# Altium schematic symbol library FVA-NET.SCHLIB: 16 symbols
Pins are listed as number, name and electrical type; pins without a type are passive.

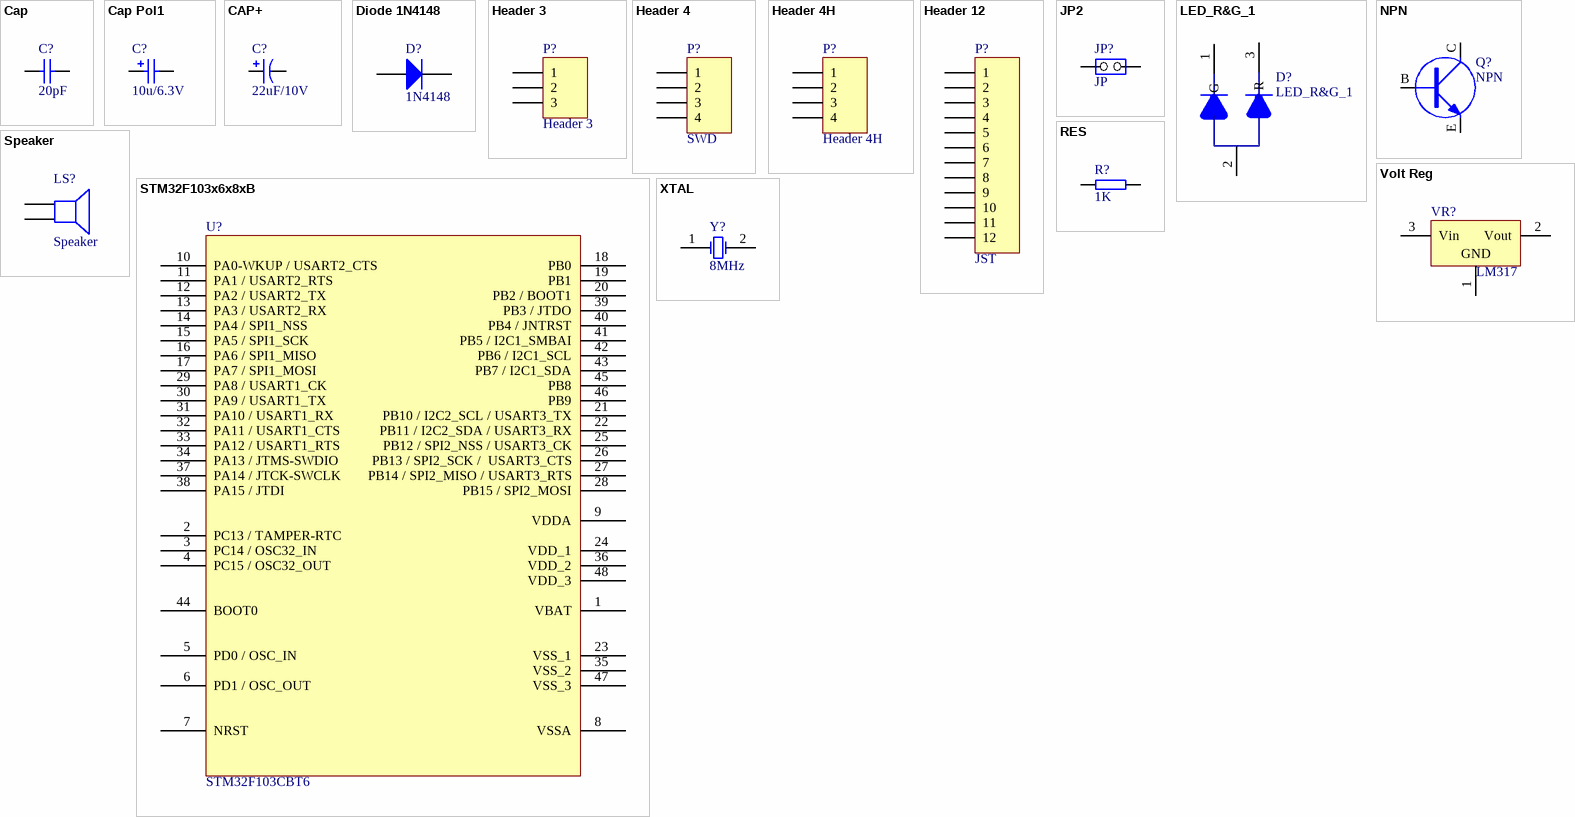
[diagram p0: symbols Cap to XTAL]

## Cap
designator C?  value 20pF  (hidden comment: Cap)
电容器 Capacitor; Published: 8-Jun-2000; LatestRevisionDate: 17-Jul-2002; LatestRevisionNote: Re-released for DXP Platform.; PackageReference: RAD-0.3; Publisher: Altium Limited
footprint RAD-0.3 (Radial Cap, Thru-Hole; 2 Leads; 0.3 in Pin Spacing)
footprint CAPR2.54-5.1x3.2 (Capacitor, Ceramic, Thru-Hole, Dipped Radial; Body 5.1 x 3.2 mm (WxT) Pin Spacing 2.54 mm (typ))
footprint CAPR5.08-7.8x3.2 (Capacitor, Ceramic, Thru-Hole, Dipped Radial; Body 7.8 x 3.2 mm (WxT) Pin Spacing 5.08 mm (typ))
footprint c0603 (Chip Capacitor, 2-Leads, Body 1.6x0.8mm, IPC Medium Density)
pins: 1, 2

## Cap Pol1
designator C?  value 10u/6.3V  (hidden comment: Cap Pol1)
Polarized Capacitor (Radial); Published: 8-Jun-2000; LatestRevisionDate: 17-Jul-2002; LatestRevisionNote: Re-released for DXP Platform.; Publisher: Altium Limited
footprint RB7.6-15 (Polarized Capacitor (Radial); 2 Leads)
footprint CAPPR1.27-1.7x2.8 (Capacitor, Radial, Tantalum; Body 1.7 x 2.8 mm (Dia.xH max); Pin Spacing 1.27 mm (typ))
footprint CAPPR1.5-4x5 (Capacitor, Electrolytic, Radial; Body 4 x 5 mm (Dia.xH typ); Pin Spacing 1.5 mm (typ))
footprint CAPPR2-5x6.8 (Capacitor, Electrolytic, Radial; Body 5 x 6.8 mm (Dia.xH typ); Pin Spacing 2 mm (typ))
footprint CAPPR5-5x5 (Capacitor, Electrolytic, Radial; Body 5 x 5 mm (Dia.xH typ); Pin Spacing 5 mm (typ))
footprint CAPPR7.5-16x35 (Capacitor, Electrolytic, Radial; Body 16 x 35 mm (Dia.xH typ); Pin Spacing 7.5 mm (typ))
simulation model CAP (Capacitor)
signal-integrity model Cap Pol
footprint C6133-2413
footprint C6030-2412
footprint TC6032-2412
footprint RB.1/.2
footprint T3216 (Molded Capacitor, 2-Leads, Body 3.2x1.6mm, IPC Medium Density)
footprint 10u
footprint 6.3V/10U
footprint 6.3V/47U
footprint TAJ-C 10u
footprint 6.3V47U
footprint 47UF/6.3V
pins: 1, 2
1 alternate drawing of the same symbol

## CAP+
designator C?  value 22uF/10V  (hidden comment: CAP+)
footprint RB2.5/6.3MM
footprint RB3.5/8MM
footprint RB5/10MM
footprint RB5/12.5MM
footprint RB7.5/16MM
footprint RB10/22MM
footprint RB10/30MM
footprint RB10/35MM
footprint T3216 (Molded Capacitor, 2-Leads, Body 3.2x1.6mm, IPC Medium Density)
footprint T3528 (Molded Capacitor, 2-Leads, Body 3.5x2.8mm, IPC Medium Density)
footprint T6032 (Molded Capacitor, 2-Leads, Body 6.0x3.2mm, IPC Medium Density)
footprint T7343 (Molded Capacitor, 2-Leads, Body 7.3x4.3mm, IPC Medium Density)
footprint RB2/5MM
footprint RB3/7MM
footprint RB4/8MM
footprint R0402
pins: 1, 2
2 alternate drawings of the same symbol

## Diode 1N4148
designator D?, comment 1N4148
High Conductance Fast Diode; Value: 1N4148
footprint D1206
simulation model 1N4148 (DIODE)
signal-integrity model 1N4148
pins: 1 A, 2 K

## Header 3
designator P?
Header, 3-Pin; LatestRevisionDate: 17-Jul-2002; LatestRevisionNote: Re-released for DXP Platform.; Publisher: Altium Limited
footprint HDR1X3 (Connector; Header; 3 Position)
signal-integrity model Connector
pins: 1, 2, 3

## Header 4
designator P?, comment SWD
Header, 4-Pin; LatestRevisionDate: 17-Jul-2002; LatestRevisionNote: Re-released for DXP Platform.; Publisher: Altium Limited; Value: *
footprint HDR1X4 (Connector; Header; 4 Position)
signal-integrity model Connector
pins: 1, 2, 3, 4

## Header 4H
designator P?
Header, 4-Pin, Right Angle; LatestRevisionDate: 17-Jul-2002; LatestRevisionNote: Re-released for DXP Platform.; Publisher: Altium Limited
footprint HDR1X4H (Connector; Header; 4 Position; Right Angle)
signal-integrity model Connector
pins: 1, 2, 3, 4

## Header 12
designator P?, comment JST
Header, 12-Pin; LatestRevisionDate: 17-Jul-2002; LatestRevisionNote: Re-released for DXP Platform.; Publisher: Altium Limited
footprint JST BM12B-SRSS-TB (BM12B-SRSS-TB)
signal-integrity model Connector
pins: 1, 2, 3, 4, 5, 6, 7, 8, 9, 10, 11, 12

## JP2
designator JP?, comment JP
Value: *
footprint SIP2
pins: 1 COMMON, 2 NO

## LED_R&G_1
designator D?
footprint LED_R&G
pins: 1 G, 2 P, 3 R

## NPN
designator Q?
NPN Transistor; Value: *
footprint SOT23/BEC (Footprint not found)
footprint SOT23/BEC
footprint TO-220AB
footprint TO-3PN
footprint TO-92/EBC
pins: B, C, E
2 alternate drawings of the same symbol

## RES
designator R?  value 1K  (hidden comment: RES)
footprint R0603
footprint R0402
footprint R0805
footprint R1206
footprint R1210
footprint R1812
footprint AXIAL-0.25
footprint AXIAL-0.3 (Axial Device, Thru-Hole; 2 Leads; 0.3 in Pin Spacing)
footprint AXIAL-0.35
footprint AXIAL-0.4
footprint AXIAL-0.5 (Axial Device, Thru-Hole; 2 Leads; 0.5 in Pin Spacing)
footprint AXIAL-0.6 (Axial Device, Thru-Hole; 2 Leads; 0.6 in Pin Spacing)
footprint AXIAL-0.7 (Axial Device, Thru-Hole; 2 Leads; 0.7 in Pin Spacing)
footprint AXIAL-0.8 (Axial Device, Thru-Hole; 2 Leads; 0.8 in Pin Spacing)
footprint AXIAL-0.9 (Axial Device, Thru-Hole; 2 Leads; 0.9 in Pin Spacing)
footprint AXIAL-1.0 (Axial Device, Thru-Hole; 2 Leads; 1.0 in Pin Spacing)
footprint R2512
footprint R0603
pins: 1, 2
2 alternate drawings of the same symbol

## Speaker
designator LS?
Loudspeaker; Published: 24-Mar-1999; LatestRevisionDate: 17-Jul-2002; LatestRevisionNote: Re-released for DXP Platform.; PackageReference: PIN2; Publisher: Altium Limited
footprint BUZZER
pins: 1, 2

## STM32F103x6x8xB
designator U?, comment STM32F103CBT6
48 pin; Value: *
footprint LQFP48 (TSQFP, 48-Leads, Body 9.2x9.2mm (max), Pitch 0.50mm, IPC Medium Density)
pins: 1 VBAT, 2 PC13 / TAMPER-RTC, 3 PC14 / OSC32_IN, 4 PC15 / OSC32_OUT, 5 PD0 / OSC_IN, 6 PD1 / OSC_OUT, 7 NRST, 8 VSSA, 9 VDDA, 10 PA0-WKUP / USART2_CTS, 11 PA1 / USART2_RTS, 12 PA2 / USART2_TX, 13 PA3 / USART2_RX, 14 PA4 / SPI1_NSS, 15 PA5 / SPI1_SCK, 16 PA6 / SPI1_MISO, 17 PA7 / SPI1_MOSI, 18 PB0, 19 PB1, 20 PB2 / BOOT1, 21 PB10 / I2C2_SCL / USART3_TX, 22 PB11 / I2C2_SDA / USART3_RX, 23 VSS_1, 24 VDD_1, 25 PB12 / SPI2_NSS / USART3_CK, 26 PB13 / SPI2_SCK /  USART3_CTS, 27 PB14 / SPI2_MISO / USART3_RTS, 28 PB15 / SPI2_MOSI, 29 PA8 / USART1_CK, 30 PA9 / USART1_TX, 31 PA10 / USART1_RX, 32 PA11 / USART1_CTS, 33 PA12 / USART1_RTS, 34 PA13 / JTMS-SWDIO, 35 VSS_2, 36 VDD_2, 37 PA14 / JTCK-SWCLK, 38 PA15 / JTDI, 39 PB3 / JTDO, 40 PB4 / JNTRST, 41 PB5 / I2C1_SMBAI, 42 PB6 / I2C1_SCL, 43 PB7 / I2C1_SDA, 44 BOOT0, 45 PB8, 46 PB9, 47 VSS_3, 48 VDD_3

## Volt Reg
designator VR?, comment LM317
Voltage Regulator; Published: 24-Mar-1999; LatestRevisionDate: 17-Jul-2002; LatestRevisionNote: Re-released for DXP Platform.; Publisher: Altium Limited; Code_JEDEC: SMD-220
footprint SIP-G3/Y2 (D2-PAK/TO-263-AB; 3 Leads (1 Cropped); Body 15.5 (inc. leads) x 10.5 mm (LxW max))
footprint SOT89 (SOT-89; Body 4.6 x 4.25 mm, inc. leads (LxW max))
footprint SOT223
footprint SOT223
pins: 1 GND, 2 Vout, 3 Vin

## XTAL
designator Y?, comment 8MHz
Crystal Oscillator; Published: 8-Jun-2000; LatestRevisionDate: 17-Jul-2002; LatestRevisionNote: Re-released for DXP Platform.; PackageReference: R38; Publisher: Altium Limited; Value: 8MHz
footprint BCY-W2/D3.1 (Crystal, Thru-Hole; 2 Leads; Body 3.1 x 8.2 mm (Dia.xH))
footprint XTAL-HC-49/U-S
footprint XTAL TC-38 (时钟晶振)
pins: 1 OSC1, 2 OSC2